# Altium integrated library SSQ-105-03-S-S.IntLib: 1 symbol
Pins are listed as number, name and electrical type; pins without a type are passive.

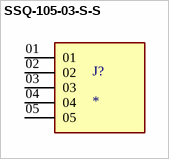
[diagram p0: symbol SSQ-105-03-S-S]

## SSQ-105-03-S-S
designator J?
MF: {'manufacturer': u'Samtec Inc.'}; MP: SSQ-105-03-S-S; Package: None; Price: None; Value: *; Availability: Unavailable
footprint SAMTEC_SSQ-105-03-S-S
pins: 01, 02, 03, 04, 05